# Altium footprint library MOLEX_0430450218.PcbLib: 1 footprints
Each footprint in its own frame and in the unit in brackets; x right, y up, seen from the top. Pads: shape width x height; smd on the part's side, far side on the other; paste and mask are expansions set on the pad; w line width, h text height; cw(c..) or ccw(c..) is an arc to the next point about the centre after c.
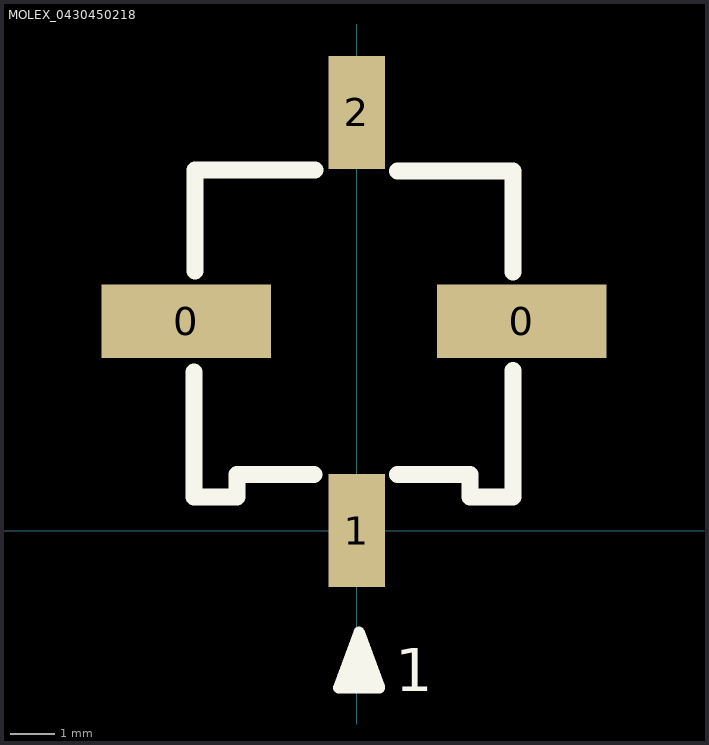
[diagram p0: the footprint, top view; thin cyan lines are the x and y axes]

## MOLEX_0430450218 [mil]
pads (4):
  rect 150x65 smd: 0(-151,185) 0(146,185)
  rect 50x100 smd: 1(0,0) 2(0,370)
Top Overlay:
  rectangle: -7,-143 11,-103
  rectangle: -14,-138 18,-127
  lines w10: 19,-139 -16,-139 2,-90 20,-139
  lines w15: -144,140.5 -144,29.5 -106,29.5 -106,49.5 -38,49.5 ; -143,229.5 -143,319 -37,319 ; 36,49.5 100,49.5 100,29.5 138,29.5 138,141.5 ; 36,318 138,318 138,228.5
  text "1" at 34,-142 h38
3D body: height 394.88, standoff 2.76, extent -209.29,-36.47 210,404.47